# Altium integrated library Capacitor - Aluminium TH.IntLib: 4591 symbols (part 56 of 68)
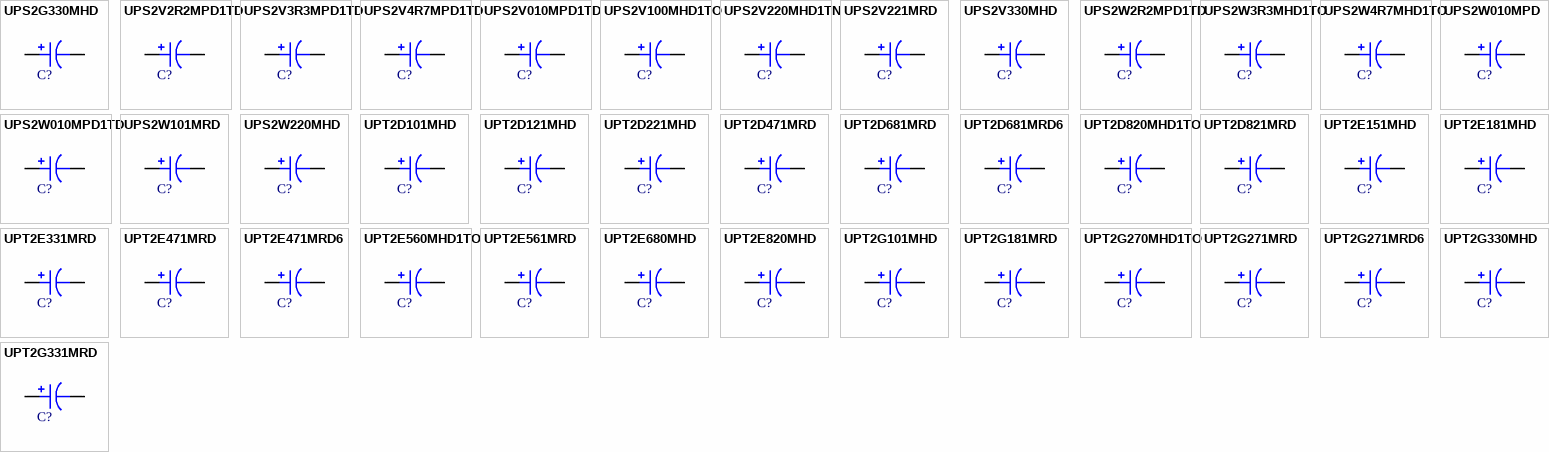
[diagram p169: symbols UPS2G330MHD to UPT2G331MRD]

## UPT2E471MRD
designator C?, comment 470uF  (value not drawn)
CAP ALUM 470UF 20% 250V RADIAL; Part Number: UPT2E471MRD; Manufacturer: Nichicon; TemperatureRange: -25C ~ 105C; Type: Polar; Ripple Current: 1.45A @ 120Hz; Value: 470uF; PartId: 27631; Supplier 1: Digi-Key; Supplier Part Number 1: 493-5693-ND; ComponentLink1Description: Datasheet; ComponentLink1URL: http://nichicon-us.com/english/products/pdfs/e-upt.pdf; ComponentLink2Description: Digi-Key Listing; ComponentLink2URL: https://www.digikey.com/product-detail/en/nichicon/UPT2E471MRD/493-5693-ND/2600200; Tolerance: 20%; Voltage: 250V; Price: 4.57; Device Package: Radial, Can, 22mm
footprint CAP AL TH D22 L10 H53
pins: 1, 2

## UPT2E471MRD6
designator C?, comment 470uF  (value not drawn)
CAP ALUM 470UF 20% 250V RADIAL; Part Number: UPT2E471MRD6; Manufacturer: Nichicon; TemperatureRange: -25C ~ 105C; Ripple Current: 1.45A; Value: 470uF; PartId: 27489; Supplier 1: Digi-Key; Supplier Part Number 1: 493-11177-ND; ComponentLink1Description: Datasheet; ComponentLink1URL: http://nichicon-us.com/english/products/pdfs/e-upt.pdf; ComponentLink2Description: Digi-Key Listing; ComponentLink2URL: https://www.digikey.com/product-detail/en/nichicon/UPT2E471MRD6/493-11177-ND/2600201; Tolerance: 20%; Voltage: 250V; Price: 4.64; Device Package: Radial, Can, 25mm
footprint CAP AL TH D25 L12.5 H42
pins: 1, 2

## UPT2E560MHD1TO
designator C?, comment 56uF  (value not drawn)
CAP ALUM 56UF 20% 250V RADIAL; Part Number: UPT2E560MHD1TO; Manufacturer: Nichicon; TemperatureRange: -25C ~ 105C; Type: Polar; Ripple Current: 310mA @ 120Hz; Value: 56uF; PartId: 24064; Supplier 1: Digi-Key; Supplier Part Number 1: 493-12219-1-ND; ComponentLink1Description: Datasheet; ComponentLink1URL: http://nichicon-us.com/english/products/pdfs/e-upt.pdf; ComponentLink2Description: Digi-Key Listing; ComponentLink2URL: https://www.digikey.com/product-detail/en/nichicon/UPT2E560MHD1TO/493-12219-1-ND/4319785; Tolerance: 20%; Voltage: 250V; Price: 1.18; Device Package: Radial, Can, 12.5mm
footprint CAP AL TH D12.5 L5 H27
pins: 1, 2

## UPT2E561MRD
designator C?, comment 560uF  (value not drawn)
CAP ALUM 560UF 20% 250V RADIAL; Part Number: UPT2E561MRD; Manufacturer: Nichicon; TemperatureRange: -25C ~ 105C; Ripple Current: 1.55A; Value: 560uF; PartId: 27545; Supplier 1: Digi-Key; Supplier Part Number 1: 493-11178-ND; ComponentLink1Description: Datasheet; ComponentLink1URL: http://nichicon-us.com/english/products/pdfs/e-upt.pdf; ComponentLink2Description: Digi-Key Listing; ComponentLink2URL: https://www.digikey.com/product-detail/en/nichicon/UPT2E561MRD/493-11178-ND/2600203; Tolerance: 20%; Voltage: 250V; Price: 5.76; Device Package: Radial, Can, 25mm
footprint CAP AL TH D25 L12.5 H52
pins: 1, 2

## UPT2E680MHD
designator C?, comment 68uF  (value not drawn)
CAP ALUM 68UF 20% 250V RADIAL; Part Number: UPT2E680MHD; Manufacturer: Nichicon; TemperatureRange: -25C ~ 105C; Type: Polar; Ripple Current: 360mA @ 120Hz; Value: 68uF; PartId: 24327; Supplier 1: Digi-Key; Supplier Part Number 1: 493-5694-ND; ComponentLink1Description: Datasheet; ComponentLink1URL: http://nichicon-us.com/english/products/pdfs/e-upt.pdf; ComponentLink2Description: Digi-Key Listing; ComponentLink2URL: https://www.digikey.com/product-detail/en/nichicon/UPT2E680MHD/493-5694-ND/2600204; Tolerance: 20%; Voltage: 250V; Price: 1.29; Device Package: Radial, Can, 12.5mm
footprint CAP AL TH D12.5 L5 H35.5
pins: 1, 2

## UPT2E820MHD
designator C?, comment 82uF  (value not drawn)
CAP ALUM 82UF 20% 250V RADIAL; Part Number: UPT2E820MHD; Manufacturer: Nichicon; TemperatureRange: -25C ~ 105C; Type: Polar; Ripple Current: 400mA @ 120Hz; Value: 82uF; PartId: 24348; Supplier 1: Digi-Key; Supplier Part Number 1: 493-5695-ND; ComponentLink1Description: Datasheet; ComponentLink1URL: http://nichicon-us.com/english/products/pdfs/e-upt.pdf; ComponentLink2Description: Digi-Key Listing; ComponentLink2URL: https://www.digikey.com/product-detail/en/nichicon/UPT2E820MHD/493-5695-ND/2600205; Tolerance: 20%; Voltage: 250V; Price: 1.39; Device Package: Radial, Can, 12.5mm
footprint CAP AL TH D12.5 L5 H35.5
pins: 1, 2

## UPT2G101MHD
designator C?, comment 100uF  (value not drawn)
CAP ALUM 100UF 20% 400V RADIAL; Part Number: UPT2G101MHD; Manufacturer: Nichicon; TemperatureRange: -25C ~ 105C; Ripple Current: 580mA; Value: 100uF; PartId: 27420; Supplier 1: Digi-Key; Supplier Part Number 1: 493-11180-ND; ComponentLink1Description: Datasheet; ComponentLink1URL: http://nichicon-us.com/english/products/pdfs/e-upt.pdf; ComponentLink2Description: Digi-Key Listing; ComponentLink2URL: https://www.digikey.com/product-detail/en/nichicon/UPT2G101MHD/493-11180-ND/2600206; Tolerance: 20%; Voltage: 400V; Price: 2.69; Device Package: Radial, Can, 16mm
footprint CAP AL TH D16 L7.5 H37
pins: 1, 2

## UPT2G181MRD
designator C?, comment 180uF  (value not drawn)
CAP ALUM 180UF 20% 400V RADIAL; Part Number: UPT2G181MRD; Manufacturer: Nichicon; TemperatureRange: -25C ~ 105C; Type: Polar; Ripple Current: 850mA @ 120Hz; Value: 180uF; PartId: 27596; Supplier 1: Digi-Key; Supplier Part Number 1: 493-5696-ND; ComponentLink1Description: Datasheet; ComponentLink1URL: http://nichicon-us.com/english/products/pdfs/e-upt.pdf; ComponentLink2Description: Digi-Key Listing; ComponentLink2URL: https://www.digikey.com/product-detail/en/nichicon/UPT2G181MRD/493-5696-ND/2600211; Tolerance: 20%; Voltage: 400V; Price: 3.89; Device Package: Radial, Can, 22mm
footprint CAP AL TH D22 L10 H43
pins: 1, 2

## UPT2G270MHD1TO
designator C?, comment 27uF  (value not drawn)
CAP ALUM 27UF 20% 400V RADIAL; Part Number: UPT2G270MHD1TO; Manufacturer: Nichicon; TemperatureRange: -25C ~ 105C; Type: Polar; Ripple Current: 240mA @ 120Hz; Value: 27uF; PartId: 23834; Supplier 1: Digi-Key; Supplier Part Number 1: 493-12220-3-ND; ComponentLink1Description: Datasheet; ComponentLink1URL: http://nichicon-us.com/english/products/pdfs/e-upt.pdf; ComponentLink2Description: Digi-Key Listing; ComponentLink2URL: https://www.digikey.com/product-detail/en/nichicon/UPT2G270MHD1TO/493-12220-3-ND/4321363; Tolerance: 20%; Voltage: 400V; Price: 0.4695; Device Package: Radial, Can, 12.5mm
footprint CAP AL TH D12.5 L5 H27
pins: 1, 2

## UPT2G271MRD
designator C?, comment 270uF  (value not drawn)
CAP ALUM 270UF 20% 400V RADIAL; Part Number: UPT2G271MRD; Manufacturer: Nichicon; TemperatureRange: -25C ~ 105C; Ripple Current: 1.3A; Value: 270uF; PartId: 27669; Supplier 1: Digi-Key; Supplier Part Number 1: 493-11186-ND; ComponentLink1Description: Datasheet; ComponentLink1URL: http://nichicon-us.com/english/products/pdfs/e-upt.pdf; ComponentLink2Description: Digi-Key Listing; ComponentLink2URL: https://www.digikey.com/product-detail/en/nichicon/UPT2G271MRD/493-11186-ND/2600214; Tolerance: 20%; Voltage: 400V; Price: 5.18; Device Package: Radial, Can, 22mm
footprint CAP AL TH D22 L10 H53
pins: 1, 2

## UPT2G271MRD6
designator C?, comment 270uF  (value not drawn)
CAP ALUM 270UF 20% 400V RADIAL; Part Number: UPT2G271MRD6; Manufacturer: Nichicon; TemperatureRange: -25C ~ 105C; Ripple Current: 1.3A; Value: 270uF; PartId: 27496; Supplier 1: Digi-Key; Supplier Part Number 1: 493-11185-ND; ComponentLink1Description: Datasheet; ComponentLink1URL: http://nichicon-us.com/english/products/pdfs/e-upt.pdf; ComponentLink2Description: Digi-Key Listing; ComponentLink2URL: https://www.digikey.com/product-detail/en/nichicon/UPT2G271MRD6/493-11185-ND/2600215; Tolerance: 20%; Voltage: 400V; Price: 5.38; Device Package: Radial, Can, 25mm
footprint CAP AL TH D25 L12.5 H42
pins: 1, 2

## UPT2G330MHD
designator C?, comment 33uF  (value not drawn)
CAP ALUM 33UF 20% 400V RADIAL; Part Number: UPT2G330MHD; Manufacturer: Nichicon; TemperatureRange: -25C ~ 105C; Type: Polar; Ripple Current: 290mA @ 120Hz; Value: 33uF; PartId: 24331; Supplier 1: Digi-Key; Supplier Part Number 1: 493-5697-ND; ComponentLink1Description: Datasheet; ComponentLink1URL: http://nichicon-us.com/english/products/pdfs/e-upt.pdf; ComponentLink2Description: Digi-Key Listing; ComponentLink2URL: https://www.digikey.com/product-detail/en/nichicon/UPT2G330MHD/493-5697-ND/2600216; Tolerance: 20%; Voltage: 400V; Price: 1.29; Device Package: Radial, Can, 12.5mm
footprint CAP AL TH D12.5 L5 H35.5
pins: 1, 2

## UPT2G331MRD
designator C?, comment 330uF  (value not drawn)
CAP ALUM 330UF 20% 400V RADIAL; Part Number: UPT2G331MRD; Manufacturer: Nichicon; TemperatureRange: -25C ~ 105C; Ripple Current: 1.4A; Value: 330uF; PartId: 27527; Supplier 1: Digi-Key; Supplier Part Number 1: 493-11187-ND; ComponentLink1Description: Datasheet; ComponentLink1URL: http://nichicon-us.com/english/products/pdfs/e-upt.pdf; ComponentLink2Description: Digi-Key Listing; ComponentLink2URL: https://www.digikey.com/product-detail/en/nichicon/UPT2G331MRD/493-11187-ND/2600217; Tolerance: 20%; Voltage: 400V; Price: 6.03; Device Package: Radial, Can, 25mm
footprint CAP AL TH D25 L12.5 H52
pins: 1, 2

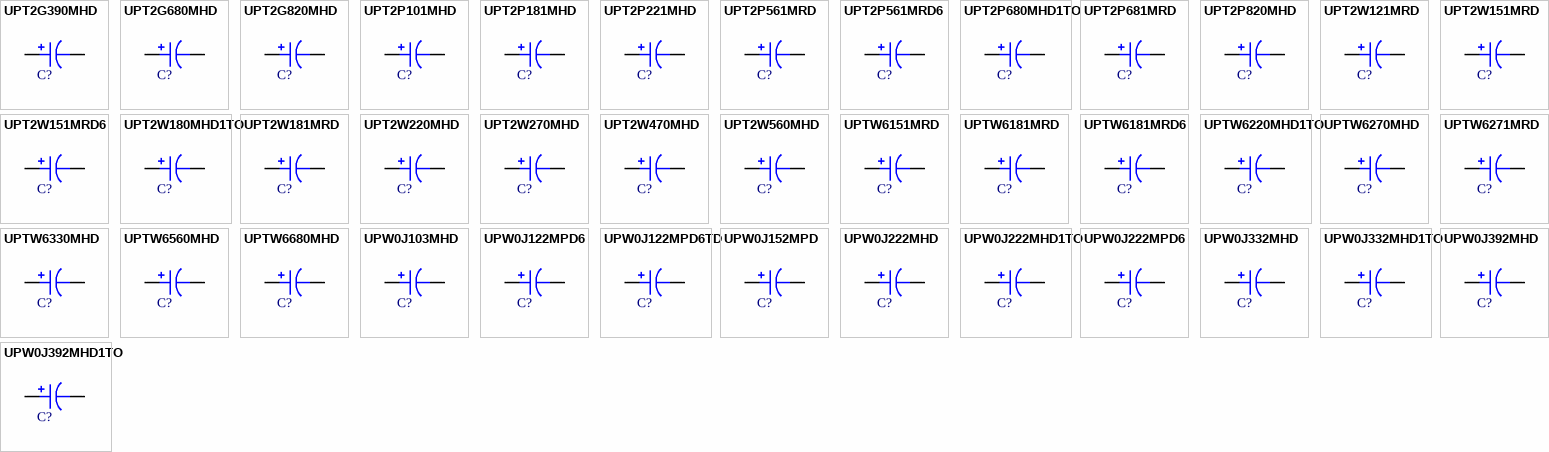
[diagram p93: symbols UPT2G390MHD to UPW0J392MHD1TO]

## UPT2G390MHD
designator C?, comment 39uF  (value not drawn)
CAP ALUM 39UF 20% 400V RADIAL; Part Number: UPT2G390MHD; Manufacturer: Nichicon; TemperatureRange: -25C ~ 105C; Ripple Current: 320mA; Value: 39uF; PartId: 24351; Supplier 1: Digi-Key; Supplier Part Number 1: 493-11188-ND; ComponentLink1Description: Datasheet; ComponentLink1URL: http://nichicon-us.com/english/products/pdfs/e-upt.pdf; ComponentLink2Description: Digi-Key Listing; ComponentLink2URL: https://www.digikey.com/product-detail/en/nichicon/UPT2G390MHD/493-11188-ND/2600218; Tolerance: 20%; Voltage: 400V; Price: 1.39; Device Package: Radial, Can, 12.5mm
footprint CAP AL TH D12.5 L5 H35.5
pins: 1, 2

## UPT2G680MHD
designator C?, comment 68uF  (value not drawn)
CAP ALUM 68UF 20% 400V RADIAL; Part Number: UPT2G680MHD; Manufacturer: Nichicon; TemperatureRange: -25C ~ 105C; Type: Polar; Ripple Current: 460mA @ 120Hz; Value: 68uF; PartId: 27196; Supplier 1: Digi-Key; Supplier Part Number 1: 493-5699-ND; ComponentLink1Description: Datasheet; ComponentLink1URL: http://nichicon-us.com/english/products/pdfs/e-upt.pdf; ComponentLink2Description: Digi-Key Listing; ComponentLink2URL: https://www.digikey.com/product-detail/en/nichicon/UPT2G680MHD/493-5699-ND/2600221; Tolerance: 20%; Voltage: 400V; Price: 2.06; Device Package: Radial, Can, 16mm
footprint CAP AL TH D16 L7.5 H33.5
pins: 1, 2

## UPT2G820MHD
designator C?, comment 82uF  (value not drawn)
CAP ALUM 82UF 20% 400V RADIAL; Part Number: UPT2G820MHD; Manufacturer: Nichicon; TemperatureRange: -25C ~ 105C; Type: Polar; Ripple Current: 500mA @ 120Hz; Value: 82uF; PartId: 27214; Supplier 1: Digi-Key; Supplier Part Number 1: 493-5700-ND; ComponentLink1Description: Datasheet; ComponentLink1URL: http://nichicon-us.com/english/products/pdfs/e-upt.pdf; ComponentLink2Description: Digi-Key Listing; ComponentLink2URL: https://www.digikey.com/product-detail/en/nichicon/UPT2G820MHD/493-5700-ND/2600222; Tolerance: 20%; Voltage: 400V; Price: 2.3; Device Package: Radial, Can, 16mm
footprint CAP AL TH D16 L7.5 H33.5
pins: 1, 2

## UPT2P101MHD
designator C?, comment 100uF  (value not drawn)
CAP ALUM 100UF 20% 220V RADIAL; Part Number: UPT2P101MHD; Manufacturer: Nichicon; TemperatureRange: -25C ~ 105C; Ripple Current: 430mA; Value: 100uF; PartId: 24349; Supplier 1: Digi-Key; Supplier Part Number 1: 493-11190-ND; ComponentLink1Description: Datasheet; ComponentLink1URL: http://nichicon-us.com/english/products/pdfs/e-upt.pdf; ComponentLink2Description: Digi-Key Listing; ComponentLink2URL: https://www.digikey.com/product-detail/en/nichicon/UPT2P101MHD/493-11190-ND/2600223; Tolerance: 20%; Voltage: 220V; Price: 1.39; Device Package: Radial, Can, 12.5mm
footprint CAP AL TH D12.5 L5 H35.5
pins: 1, 2

## UPT2P181MHD
designator C?, comment 180uF  (value not drawn)
CAP ALUM 180UF 20% 220V RADIAL; Part Number: UPT2P181MHD; Manufacturer: Nichicon; TemperatureRange: -25C ~ 105C; Type: Polar; Ripple Current: 670mA @ 120Hz; Value: 180uF; PartId: 27173; Supplier 1: Digi-Key; Supplier Part Number 1: 493-5703-ND; ComponentLink1Description: Datasheet; ComponentLink1URL: http://nichicon-us.com/english/products/pdfs/e-upt.pdf; ComponentLink2Description: Digi-Key Listing; ComponentLink2URL: https://www.digikey.com/product-detail/en/nichicon/UPT2P181MHD/493-5703-ND/2600226; Tolerance: 20%; Voltage: 220V; Price: 1.9; Device Package: Radial, Can, 16mm
footprint CAP AL TH D16 L7.5 H33.5
pins: 1, 2

## UPT2P221MHD
designator C?, comment 220uF  (value not drawn)
CAP ALUM 220UF 20% 220V RADIAL; Part Number: UPT2P221MHD; Manufacturer: Nichicon; TemperatureRange: -25C ~ 105C; Type: Polar; Ripple Current: 770mA @ 120Hz; Value: 220uF; PartId: 27417; Supplier 1: Digi-Key; Supplier Part Number 1: 493-5704-ND; ComponentLink1Description: Datasheet; ComponentLink1URL: http://nichicon-us.com/english/products/pdfs/e-upt.pdf; ComponentLink2Description: Digi-Key Listing; ComponentLink2URL: https://www.digikey.com/product-detail/en/nichicon/UPT2P221MHD/493-5704-ND/2600227; Tolerance: 20%; Voltage: 220V; Price: 2.58; Device Package: Radial, Can, 16mm
footprint CAP AL TH D16 L7.5 H37
pins: 1, 2

## UPT2P561MRD
designator C?, comment 560uF  (value not drawn)
CAP ALUM 560UF 20% 220V RADIAL; Part Number: UPT2P561MRD; Manufacturer: Nichicon; TemperatureRange: -25C ~ 105C; Type: Polar; Ripple Current: 1.5A @ 120Hz; Value: 560uF; PartId: 27659; Supplier 1: Digi-Key; Supplier Part Number 1: 493-5708-ND; ComponentLink1Description: Datasheet; ComponentLink1URL: http://nichicon-us.com/english/products/pdfs/e-upt.pdf; ComponentLink2Description: Digi-Key Listing; ComponentLink2URL: https://www.digikey.com/product-detail/en/nichicon/UPT2P561MRD/493-5708-ND/2600234; Tolerance: 20%; Voltage: 220V; Price: 4.57; Device Package: Radial, Can, 22mm
footprint CAP AL TH D22 L10 H53
pins: 1, 2

## UPT2P561MRD6
designator C?, comment 560uF  (value not drawn)
CAP ALUM 560UF 20% 220V RADIAL; Part Number: UPT2P561MRD6; Manufacturer: Nichicon; TemperatureRange: -25C ~ 105C; Ripple Current: 1.5A; Value: 560uF; PartId: 27493; Supplier 1: Digi-Key; Supplier Part Number 1: 493-11194-ND; ComponentLink1Description: Datasheet; ComponentLink1URL: http://nichicon-us.com/english/products/pdfs/e-upt.pdf; ComponentLink2Description: Digi-Key Listing; ComponentLink2URL: https://www.digikey.com/product-detail/en/nichicon/UPT2P561MRD6/493-11194-ND/2600235; Tolerance: 20%; Voltage: 220V; Price: 4.6; Device Package: Radial, Can, 25mm
footprint CAP AL TH D25 L12.5 H42
pins: 1, 2

## UPT2P680MHD1TO
designator C?, comment 68uF  (value not drawn)
CAP ALUM 68UF 20% 220V RADIAL; Part Number: UPT2P680MHD1TO; Manufacturer: Nichicon; TemperatureRange: -25C ~ 105C; Type: Polar; Ripple Current: 340mA @ 120Hz; Value: 68uF; PartId: 23634; Supplier 1: Digi-Key; Supplier Part Number 1: 493-5421-3-ND; ComponentLink1Description: Datasheet; ComponentLink1URL: http://nichicon-us.com/english/products/pdfs/e-upt.pdf; ComponentLink2Description: Digi-Key Listing; ComponentLink2URL: https://www.digikey.com/product-detail/en/nichicon/UPT2P680MHD1TO/493-5421-3-ND/3130426; Tolerance: 20%; Voltage: 220V; Price: 0.4695; Device Package: Radial, Can, 12.5mm
footprint CAP AL TH D12.5 L5 H26.5
pins: 1, 2

## UPT2P681MRD
designator C?, comment 680uF  (value not drawn)
CAP ALUM 680UF 20% 220V RADIAL; Part Number: UPT2P681MRD; Manufacturer: Nichicon; TemperatureRange: -25C ~ 105C; Ripple Current: 1.6A; Value: 680uF; PartId: 27525; Supplier 1: Digi-Key; Supplier Part Number 1: 493-11195-ND; ComponentLink1Description: Datasheet; ComponentLink1URL: http://nichicon-us.com/english/products/pdfs/e-upt.pdf; ComponentLink2Description: Digi-Key Listing; ComponentLink2URL: https://www.digikey.com/product-detail/en/nichicon/UPT2P681MRD/493-11195-ND/2600237; Tolerance: 20%; Voltage: 220V; Price: 5.76; Device Package: Radial, Can, 25mm
footprint CAP AL TH D25 L12.5 H52
pins: 1, 2

## UPT2P820MHD
designator C?, comment 82uF  (value not drawn)
CAP ALUM 82UF 20% 220V RADIAL; Part Number: UPT2P820MHD; Manufacturer: Nichicon; TemperatureRange: -25C ~ 105C; Type: Polar; Ripple Current: 400mA @ 120Hz; Value: 82uF; PartId: 24329; Supplier 1: Digi-Key; Supplier Part Number 1: 493-5709-ND; ComponentLink1Description: Datasheet; ComponentLink1URL: http://nichicon-us.com/english/products/pdfs/e-upt.pdf; ComponentLink2Description: Digi-Key Listing; ComponentLink2URL: https://www.digikey.com/product-detail/en/nichicon/UPT2P820MHD/493-5709-ND/2600238; Tolerance: 20%; Voltage: 220V; Price: 1.29; Device Package: Radial, Can, 12.5mm
footprint CAP AL TH D12.5 L5 H35.5
pins: 1, 2

## UPT2W121MRD
designator C?, comment 120uF  (value not drawn)
CAP ALUM 120UF 20% 450V RADIAL; Part Number: UPT2W121MRD; Manufacturer: Nichicon; TemperatureRange: -25C ~ 105C; Ripple Current: 770mA; Value: 120uF; PartId: 27591; Supplier 1: Digi-Key; Supplier Part Number 1: 493-11197-ND; ComponentLink1Description: Datasheet; ComponentLink1URL: http://nichicon-us.com/english/products/pdfs/e-upt.pdf; ComponentLink2Description: Digi-Key Listing; ComponentLink2URL: https://www.digikey.com/product-detail/en/nichicon/UPT2W121MRD/493-11197-ND/2600240; Tolerance: 20%; Voltage: 450V; Price: 3.76; Device Package: Radial, Can, 22mm
footprint CAP AL TH D22 L10 H43
pins: 1, 2

## UPT2W151MRD
designator C?, comment 150uF  (value not drawn)
CAP ALUM 150UF 20% 450V RADIAL; Part Number: UPT2W151MRD; Manufacturer: Nichicon; TemperatureRange: -25C ~ 105C; Ripple Current: 920mA; Value: 150uF; PartId: 27616; Supplier 1: Digi-Key; Supplier Part Number 1: 493-11200-ND; ComponentLink1Description: Datasheet; ComponentLink1URL: http://nichicon-us.com/english/products/pdfs/e-upt.pdf; ComponentLink2Description: Digi-Key Listing; ComponentLink2URL: https://www.digikey.com/product-detail/en/nichicon/UPT2W151MRD/493-11200-ND/2600242; Tolerance: 20%; Voltage: 450V; Price: 4.54; Device Package: Radial, Can, 22mm
footprint CAP AL TH D22 L10 H53
pins: 1, 2

## UPT2W151MRD6
designator C?, comment 150uF  (value not drawn)
CAP ALUM 150UF 20% 450V RADIAL; Part Number: UPT2W151MRD6; Manufacturer: Nichicon; TemperatureRange: -25C ~ 105C; Ripple Current: 920mA; Value: 150uF; PartId: 27490; Supplier 1: Digi-Key; Supplier Part Number 1: 493-11199-ND; ComponentLink1Description: Datasheet; ComponentLink1URL: http://nichicon-us.com/english/products/pdfs/e-upt.pdf; ComponentLink2Description: Digi-Key Listing; ComponentLink2URL: https://www.digikey.com/product-detail/en/nichicon/UPT2W151MRD6/493-11199-ND/2600243; Tolerance: 20%; Voltage: 450V; Price: 4.85; Device Package: Radial, Can, 25mm
footprint CAP AL TH D25 L12.5 H42
pins: 1, 2

## UPT2W180MHD1TO
designator C?, comment 18uF  (value not drawn)
CAP ALUM 18UF 20% 450V RADIAL; Part Number: UPT2W180MHD1TO; Manufacturer: Nichicon; TemperatureRange: -25C ~ 105C; Type: Polar; Ripple Current: 180mA @ 120Hz; Value: 18uF; PartId: 23635; Supplier 1: Digi-Key; Supplier Part Number 1: 493-5422-3-ND; ComponentLink1Description: Datasheet; ComponentLink1URL: http://nichicon-us.com/english/products/pdfs/e-upt.pdf; ComponentLink2Description: Digi-Key Listing; ComponentLink2URL: https://www.digikey.com/product-detail/en/nichicon/UPT2W180MHD1TO/493-5422-3-ND/3130427; Tolerance: 20%; Voltage: 450V; Price: 0.4695; Device Package: Radial, Can, 12.5mm
footprint CAP AL TH D12.5 L5 H26.5
pins: 1, 2

## UPT2W181MRD
designator C?, comment 180uF  (value not drawn)
CAP ALUM 180UF 20% 450V RADIAL; Part Number: UPT2W181MRD; Manufacturer: Nichicon; TemperatureRange: -25C ~ 105C; Ripple Current: 1.1A; Value: 180uF; PartId: 27555; Supplier 1: Digi-Key; Supplier Part Number 1: 493-11201-ND; ComponentLink1Description: Datasheet; ComponentLink1URL: http://nichicon-us.com/english/products/pdfs/e-upt.pdf; ComponentLink2Description: Digi-Key Listing; ComponentLink2URL: https://www.digikey.com/product-detail/en/nichicon/UPT2W181MRD/493-11201-ND/2600245; Tolerance: 20%; Voltage: 450V; Price: 5.76; Device Package: Radial, Can, 25mm
footprint CAP AL TH D25 L12.5 H52
pins: 1, 2

## UPT2W220MHD
designator C?, comment 22uF  (value not drawn)
CAP ALUM 22UF 20% 450V RADIAL; Part Number: UPT2W220MHD; Manufacturer: Nichicon; TemperatureRange: -25C ~ 105C; Ripple Current: 220mA; Value: 22uF; PartId: 24355; Supplier 1: Digi-Key; Supplier Part Number 1: 493-11202-ND; ComponentLink1Description: Datasheet; ComponentLink1URL: http://nichicon-us.com/english/products/pdfs/e-upt.pdf; ComponentLink2Description: Digi-Key Listing; ComponentLink2URL: https://www.digikey.com/product-detail/en/nichicon/UPT2W220MHD/493-11202-ND/2600246; Tolerance: 20%; Voltage: 450V; Price: 1.45; Device Package: Radial, Can, 12.5mm
footprint CAP AL TH D12.5 L5 H35.5
pins: 1, 2

## UPT2W270MHD
designator C?, comment 27uF  (value not drawn)
CAP ALUM 27UF 20% 450V RADIAL; Part Number: UPT2W270MHD; Manufacturer: Nichicon; TemperatureRange: -25C ~ 105C; Ripple Current: 250mA; Value: 27uF; PartId: 24346; Supplier 1: Digi-Key; Supplier Part Number 1: 493-11203-ND; ComponentLink1Description: Datasheet; ComponentLink1URL: http://nichicon-us.com/english/products/pdfs/e-upt.pdf; ComponentLink2Description: Digi-Key Listing; ComponentLink2URL: https://www.digikey.com/product-detail/en/nichicon/UPT2W270MHD/493-11203-ND/2600247; Tolerance: 20%; Voltage: 450V; Price: 1.39; Device Package: Radial, Can, 12.5mm
footprint CAP AL TH D12.5 L5 H35.5
pins: 1, 2

## UPT2W470MHD
designator C?, comment 47uF  (value not drawn)
CAP ALUM 47UF 20% 450V RADIAL; Part Number: UPT2W470MHD; Manufacturer: Nichicon; TemperatureRange: -25C ~ 105C; Ripple Current: 380mA; Value: 47uF; PartId: 27198; Supplier 1: Digi-Key; Supplier Part Number 1: 493-11206-ND; ComponentLink1Description: Datasheet; ComponentLink1URL: http://nichicon-us.com/english/products/pdfs/e-upt.pdf; ComponentLink2Description: Digi-Key Listing; ComponentLink2URL: https://www.digikey.com/product-detail/en/nichicon/UPT2W470MHD/493-11206-ND/2600250; Tolerance: 20%; Voltage: 450V; Price: 2.07; Device Package: Radial, Can, 16mm
footprint CAP AL TH D16 L7.5 H33.5
pins: 1, 2

## UPT2W560MHD
designator C?, comment 56uF  (value not drawn)
CAP ALUM 56UF 20% 450V RADIAL; Part Number: UPT2W560MHD; Manufacturer: Nichicon; TemperatureRange: -25C ~ 105C; Ripple Current: 440mA; Value: 56uF; PartId: 27409; Supplier 1: Digi-Key; Supplier Part Number 1: 493-11207-ND; ComponentLink1Description: Datasheet; ComponentLink1URL: http://nichicon-us.com/english/products/pdfs/e-upt.pdf; ComponentLink2Description: Digi-Key Listing; ComponentLink2URL: https://www.digikey.com/product-detail/en/nichicon/UPT2W560MHD/493-11207-ND/2600251; Tolerance: 20%; Voltage: 450V; Price: 2.35; Device Package: Radial, Can, 16mm
footprint CAP AL TH D16 L7.5 H37
pins: 1, 2

## UPTW6151MRD
designator C?, comment 150uF  (value not drawn)
CAP ALUM 150UF 20% 420V RADIAL; Part Number: UPTW6151MRD; Manufacturer: Nichicon; TemperatureRange: -25C ~ 105C; Type: Polar; Ripple Current: 800mA @ 120Hz; Value: 150uF; PartId: 27580; Supplier 1: Digi-Key; Supplier Part Number 1: 493-5710-ND; ComponentLink1Description: Datasheet; ComponentLink1URL: http://nichicon-us.com/english/products/pdfs/e-upt.pdf; ComponentLink2Description: Digi-Key Listing; ComponentLink2URL: https://www.digikey.com/product-detail/en/nichicon/UPTW6151MRD/493-5710-ND/2600257; Tolerance: 20%; Voltage: 420V; Price: 4.65; Device Package: Radial, Can, 22mm
footprint CAP AL TH D22 L10 H43
pins: 1, 2

## UPTW6181MRD
designator C?, comment 180uF  (value not drawn)
CAP ALUM 180UF 20% 420V RADIAL; Part Number: UPTW6181MRD; Manufacturer: Nichicon; TemperatureRange: -25C ~ 105C; Type: Polar; Ripple Current: 950mA @ 120Hz; Value: 180uF; PartId: 27632; Supplier 1: Digi-Key; Supplier Part Number 1: 493-5711-ND; ComponentLink1Description: Datasheet; ComponentLink1URL: http://nichicon-us.com/english/products/pdfs/e-upt.pdf; ComponentLink2Description: Digi-Key Listing; ComponentLink2URL: https://www.digikey.com/product-detail/en/nichicon/UPTW6181MRD/493-5711-ND/2600259; Tolerance: 20%; Voltage: 420V; Price: 5.17; Device Package: Radial, Can, 22mm
footprint CAP AL TH D22 L10 H53
pins: 1, 2

## UPTW6181MRD6
designator C?, comment 180uF  (value not drawn)
CAP ALUM 180UF 20% 420V RADIAL; Part Number: UPTW6181MRD6; Manufacturer: Nichicon; TemperatureRange: -25C ~ 105C; Type: Polar; Ripple Current: 950mA @ 120Hz; Value: 180uF; PartId: 27494; Supplier 1: Digi-Key; Supplier Part Number 1: 493-5712-ND; ComponentLink1Description: Datasheet; ComponentLink1URL: http://nichicon-us.com/english/products/pdfs/e-upt.pdf; ComponentLink2Description: Digi-Key Listing; ComponentLink2URL: https://www.digikey.com/product-detail/en/nichicon/UPTW6181MRD6/493-5712-ND/2600260; Tolerance: 20%; Voltage: 420V; Price: 5.79; Device Package: Radial, Can, 25mm
footprint CAP AL TH D25 L12.5 H42
pins: 1, 2

## UPTW6220MHD1TO
designator C?, comment 22uF  (value not drawn)
CAP ALUM 22UF 20% 420V RADIAL; Part Number: UPTW6220MHD1TO; Manufacturer: Nichicon; TemperatureRange: -25C ~ 105C; Type: Polar; Ripple Current: 200mA @ 120Hz; Value: 22uF; PartId: 23633; Supplier 1: Digi-Key; Supplier Part Number 1: 493-5423-3-ND; ComponentLink1Description: Datasheet; ComponentLink1URL: http://nichicon-us.com/english/products/pdfs/e-upt.pdf; ComponentLink2Description: Digi-Key Listing; ComponentLink2URL: https://www.digikey.com/product-detail/en/nichicon/UPTW6220MHD1TO/493-5423-3-ND/3130428; Tolerance: 20%; Voltage: 420V; Price: 0.4695; Device Package: Radial, Can, 12.5mm
footprint CAP AL TH D12.5 L5 H26.5
pins: 1, 2

## UPTW6270MHD
designator C?, comment 27uF  (value not drawn)
CAP ALUM 27UF 20% 420V RADIAL; Part Number: UPTW6270MHD; Manufacturer: Nichicon; TemperatureRange: -25C ~ 105C; Type: Polar; Ripple Current: 240mA @ 120Hz; Value: 27uF; PartId: 24328; Supplier 1: Digi-Key; Supplier Part Number 1: 493-5713-ND; ComponentLink1Description: Datasheet; ComponentLink1URL: http://nichicon-us.com/english/products/pdfs/e-upt.pdf; ComponentLink2Description: Digi-Key Listing; ComponentLink2URL: https://www.digikey.com/product-detail/en/nichicon/UPTW6270MHD/493-5713-ND/2600262; Tolerance: 20%; Voltage: 420V; Price: 1.29; Device Package: Radial, Can, 12.5mm
footprint CAP AL TH D12.5 L5 H35.5
pins: 1, 2

## UPTW6271MRD
designator C?, comment 270uF  (value not drawn)
CAP ALUM 270UF 20% 420V RADIAL; Part Number: UPTW6271MRD; Manufacturer: Nichicon; TemperatureRange: -25C ~ 105C; Type: Polar; Ripple Current: 1.2A @ 120Hz; Value: 270uF; PartId: 27511; Supplier 1: Digi-Key; Supplier Part Number 1: 493-5714-ND; ComponentLink1Description: Datasheet; ComponentLink1URL: http://nichicon-us.com/english/products/pdfs/e-upt.pdf; ComponentLink2Description: Digi-Key Listing; ComponentLink2URL: https://www.digikey.com/product-detail/en/nichicon/UPTW6271MRD/493-5714-ND/2600263; Tolerance: 20%; Voltage: 420V; Price: 5.68; Device Package: Radial, Can, 25mm
footprint CAP AL TH D25 L12.5 H52
pins: 1, 2

## UPTW6330MHD
designator C?, comment 33uF  (value not drawn)
CAP ALUM 33UF 20% 420V RADIAL; Part Number: UPTW6330MHD; Manufacturer: Nichicon; TemperatureRange: -25C ~ 105C; Type: Polar; Ripple Current: 270mA @ 120Hz; Value: 33uF; PartId: 24347; Supplier 1: Digi-Key; Supplier Part Number 1: 493-5715-ND; ComponentLink1Description: Datasheet; ComponentLink1URL: http://nichicon-us.com/english/products/pdfs/e-upt.pdf; ComponentLink2Description: Digi-Key Listing; ComponentLink2URL: https://www.digikey.com/product-detail/en/nichicon/UPTW6330MHD/493-5715-ND/2600264; Tolerance: 20%; Voltage: 420V; Price: 1.39; Device Package: Radial, Can, 12.5mm
footprint CAP AL TH D12.5 L5 H35.5
pins: 1, 2

## UPTW6560MHD
designator C?, comment 56uF  (value not drawn)
CAP ALUM 56UF 20% 420V RADIAL; Part Number: UPTW6560MHD; Manufacturer: Nichicon; TemperatureRange: -25C ~ 105C; Type: Polar; Ripple Current: 430mA @ 120Hz; Value: 56uF; PartId: 27204; Supplier 1: Digi-Key; Supplier Part Number 1: 493-5717-ND; ComponentLink1Description: Datasheet; ComponentLink1URL: http://nichicon-us.com/english/products/pdfs/e-upt.pdf; ComponentLink2Description: Digi-Key Listing; ComponentLink2URL: https://www.digikey.com/product-detail/en/nichicon/UPTW6560MHD/493-5717-ND/2600267; Tolerance: 20%; Voltage: 420V; Price: 2.11; Device Package: Radial, Can, 16mm
footprint CAP AL TH D16 L7.5 H33.5
pins: 1, 2

## UPTW6680MHD
designator C?, comment 68uF  (value not drawn)
CAP ALUM 68UF 20% 420V RADIAL; Part Number: UPTW6680MHD; Manufacturer: Nichicon; TemperatureRange: -25C ~ 105C; Type: Polar; Ripple Current: 510mA @ 120Hz; Value: 68uF; PartId: 27408; Supplier 1: Digi-Key; Supplier Part Number 1: 493-5718-ND; ComponentLink1Description: Datasheet; ComponentLink1URL: http://nichicon-us.com/english/products/pdfs/e-upt.pdf; ComponentLink2Description: Digi-Key Listing; ComponentLink2URL: https://www.digikey.com/product-detail/en/nichicon/UPTW6680MHD/493-5718-ND/2600268; Tolerance: 20%; Voltage: 420V; Price: 2.35; Device Package: Radial, Can, 16mm
footprint CAP AL TH D16 L7.5 H37
pins: 1, 2

## UPW0J103MHD
designator C?, comment 10000uF  (value not drawn)
CAP ALUM 10000UF 20% 6.3V RADIAL; Part Number: UPW0J103MHD; Manufacturer: Nichicon; TemperatureRange: -55C ~ 105C; Type: Polar; Ripple Current: 2.678A @ 120Hz; Impedance: 16 mOhm; Value: 10000uF; PartId: 27134; Supplier 1: Digi-Key; Supplier Part Number 1: 493-1723-ND; ComponentLink1Description: Datasheet; ComponentLink1URL: http://nichicon-us.com/english/products/pdfs/e-upw.pdf; ComponentLink2Description: Digi-Key Listing; ComponentLink2URL: https://www.digikey.com/product-detail/en/nichicon/UPW0J103MHD/493-1723-ND/589464; Tolerance: 20%; Voltage: 6.3V; Price: 1.79; Device Package: Radial, Can, 16mm
footprint CAP AL TH D16 L7.5 H33.5
pins: 1, 2

## UPW0J122MPD6
designator C?, comment 1200uF  (value not drawn)
CAP ALUM 1200UF 20% 6.3V RADIAL; Part Number: UPW0J122MPD6; Manufacturer: Nichicon; TemperatureRange: -55C ~ 105C; Type: Polar; Ripple Current: 893mA @ 120Hz; Impedance: 68 mOhm; Value: 1200uF; PartId: 25156; Supplier 1: Digi-Key; Supplier Part Number 1: 493-1709-ND; ComponentLink1Description: Datasheet; ComponentLink1URL: http://nichicon-us.com/english/products/pdfs/e-upw.pdf; ComponentLink2Description: Digi-Key Listing; ComponentLink2URL: https://www.digikey.com/product-detail/en/nichicon/UPW0J122MPD6/493-1709-ND/589450; Tolerance: 20%; Voltage: 6.3V; Price: 0.43; Device Package: Radial, Can, 10mm
footprint CAP AL TH D10 L5 H17.5
pins: 1, 2

## UPW0J122MPD6TD
designator C?, comment 1200uF  (value not drawn)
CAP ALUM 1200UF 20% 6.3V RADIAL; Part Number: UPW0J122MPD6TD; Manufacturer: Nichicon; TemperatureRange: -55C ~ 105C; Type: Polar; Ripple Current: 893mA @ 120Hz; Impedance: 68 mOhm; Value: 1200uF; PartId: 25001; Supplier 1: Digi-Key; Supplier Part Number 1: 493-11799-3-ND; ComponentLink1Description: Datasheet; ComponentLink1URL: http://nichicon-us.com/english/products/pdfs/e-upw.pdf; ComponentLink2Description: Digi-Key Listing; ComponentLink2URL: https://www.digikey.com/product-detail/en/nichicon/UPW0J122MPD6TD/493-11799-3-ND/4320942; Tolerance: 20%; Voltage: 6.3V; Price: 0.149; Device Package: Radial, Can, 10mm
footprint CAP AL TH D10 L5 H17.5
pins: 1, 2

## UPW0J152MPD
designator C?, comment 1500uF  (value not drawn)
CAP ALUM 1500UF 20% 6.3V RADIAL; Part Number: UPW0J152MPD; Manufacturer: Nichicon; TemperatureRange: -55C ~ 105C; Type: Polar; Ripple Current: 1.037A @ 120Hz; Impedance: 52 mOhm; Value: 1500uF; PartId: 25531; Supplier 1: Digi-Key; Supplier Part Number 1: 493-1710-ND; ComponentLink1Description: Datasheet; ComponentLink1URL: http://nichicon-us.com/english/products/pdfs/e-upw.pdf; ComponentLink2Description: Digi-Key Listing; ComponentLink2URL: https://www.digikey.com/product-detail/en/nichicon/UPW0J152MPD/493-1710-ND/589451; Tolerance: 20%; Voltage: 6.3V; Price: 0.61; Device Package: Radial, Can, 10mm
footprint CAP AL TH D10 L5 H22
pins: 1, 2

## UPW0J222MHD
designator C?, comment 2200uF  (value not drawn)
CAP ALUM 2200UF 20% 6.3V RADIAL; Part Number: UPW0J222MHD; Manufacturer: Nichicon; TemperatureRange: -55C ~ 105C; Type: Polar; Ripple Current: 1.407A @ 120Hz; Impedance: 38 mOhm; Value: 2200uF; PartId: 22880; Supplier 1: Digi-Key; Supplier Part Number 1: 493-1711-ND; ComponentLink1Description: Datasheet; ComponentLink1URL: http://nichicon-us.com/english/products/pdfs/e-upw.pdf; ComponentLink2Description: Digi-Key Listing; ComponentLink2URL: https://www.digikey.com/product-detail/en/nichicon/UPW0J222MHD/493-1711-ND/589452; Tolerance: 20%; Voltage: 6.3V; Price: 0; Device Package: Radial, Can, 12.5mm
footprint CAP AL TH D12.5 L5 H20
pins: 1, 2

## UPW0J222MHD1TO
designator C?, comment 2200uF  (value not drawn)
CAP ALUM 2200UF 20% 6.3V RADIAL; Part Number: UPW0J222MHD1TO; Manufacturer: Nichicon; TemperatureRange: -55C ~ 105C; Type: Polar; Ripple Current: 1.407A @ 120Hz; Impedance: 38 mOhm; Value: 2200uF; PartId: 23309; Supplier 1: Digi-Key; Supplier Part Number 1: 493-12055-1-ND; ComponentLink1Description: Datasheet; ComponentLink1URL: http://nichicon-us.com/english/products/pdfs/e-upw.pdf; ComponentLink2Description: Digi-Key Listing; ComponentLink2URL: https://www.digikey.com/product-detail/en/nichicon/UPW0J222MHD1TO/493-12055-1-ND/4319861; Tolerance: 20%; Voltage: 6.3V; Price: 0.81; Device Package: Radial, Can, 12.5mm
footprint CAP AL TH D12.5 L5 H22
pins: 1, 2

## UPW0J222MPD6
designator C?, comment 2200uF  (value not drawn)
CAP ALUM 2200UF 20% 6.3V RADIAL; Part Number: UPW0J222MPD6; Manufacturer: Nichicon; TemperatureRange: -55C ~ 105C; Type: Polar; Ripple Current: 1.224A @ 120Hz; Impedance: 45 mOhm; Value: 2200uF; PartId: 26152; Supplier 1: Digi-Key; Supplier Part Number 1: 493-1712-ND; ComponentLink1Description: Datasheet; ComponentLink1URL: http://nichicon-us.com/english/products/pdfs/e-upw.pdf; ComponentLink2Description: Digi-Key Listing; ComponentLink2URL: https://www.digikey.com/product-detail/en/nichicon/UPW0J222MPD6/493-1712-ND/589453; Tolerance: 20%; Voltage: 6.3V; Price: 0.85; Device Package: Radial, Can, 10mm
footprint CAP AL TH D10 L5 H30
pins: 1, 2

## UPW0J332MHD
designator C?, comment 3300uF  (value not drawn)
CAP ALUM 3300UF 20% 6.3V RADIAL; Part Number: UPW0J332MHD; Manufacturer: Nichicon; TemperatureRange: -55C ~ 105C; Type: Polar; Ripple Current: 1.407A @ 120Hz; Impedance: 38 mOhm; Value: 3300uF; PartId: 22883; Supplier 1: Digi-Key; Supplier Part Number 1: 493-1714-ND; ComponentLink1Description: Datasheet; ComponentLink1URL: http://nichicon-us.com/english/products/pdfs/e-upw.pdf; ComponentLink2Description: Digi-Key Listing; ComponentLink2URL: https://www.digikey.com/product-detail/en/nichicon/UPW0J332MHD/493-1714-ND/589455; Tolerance: 20%; Voltage: 6.3V; Price: 0; Device Package: Radial, Can, 12.5mm
footprint CAP AL TH D12.5 L5 H20
pins: 1, 2

## UPW0J332MHD1TO
designator C?, comment 3300uF  (value not drawn)
CAP ALUM 3300UF 20% 6.3V RADIAL; Part Number: UPW0J332MHD1TO; Manufacturer: Nichicon; TemperatureRange: -55C ~ 105C; Type: Polar; Ripple Current: 1.407A @ 120Hz; Impedance: 38 mOhm; Value: 3300uF; PartId: 23325; Supplier 1: Digi-Key; Supplier Part Number 1: 493-12058-1-ND; ComponentLink1Description: Datasheet; ComponentLink1URL: http://nichicon-us.com/english/products/pdfs/e-upw.pdf; ComponentLink2Description: Digi-Key Listing; ComponentLink2URL: https://www.digikey.com/product-detail/en/nichicon/UPW0J332MHD1TO/493-12058-1-ND/4319867; Tolerance: 20%; Voltage: 6.3V; Price: 0.82; Device Package: Radial, Can, 12.5mm
footprint CAP AL TH D12.5 L5 H22
pins: 1, 2

## UPW0J392MHD
designator C?, comment 3900uF  (value not drawn)
CAP ALUM 3900UF 20% 6.3V RADIAL; Part Number: UPW0J392MHD; Manufacturer: Nichicon; TemperatureRange: -55C ~ 105C; Type: Polar; Ripple Current: 1.653A @ 120Hz; Impedance: 30 mOhm; Value: 3900uF; PartId: 23615; Supplier 1: Digi-Key; Supplier Part Number 1: 493-1715-ND; ComponentLink1Description: Datasheet; ComponentLink1URL: http://nichicon-us.com/english/products/pdfs/e-upw.pdf; ComponentLink2Description: Digi-Key Listing; ComponentLink2URL: https://www.digikey.com/product-detail/en/nichicon/UPW0J392MHD/493-1715-ND/589456; Tolerance: 20%; Voltage: 6.3V; Price: 1.27; Device Package: Radial, Can, 12.5mm
footprint CAP AL TH D12.5 L5 H25
pins: 1, 2

## UPW0J392MHD1TO
designator C?, comment 3900uF  (value not drawn)
CAP ALUM 3900UF 20% 6.3V RADIAL; Part Number: UPW0J392MHD1TO; Manufacturer: Nichicon; TemperatureRange: -55C ~ 105C; Type: Polar; Ripple Current: 1.653A @ 120Hz; Impedance: 30 mOhm; Value: 3900uF; PartId: 24053; Supplier 1: Digi-Key; Supplier Part Number 1: 493-12206-1-ND; ComponentLink1Description: Datasheet; ComponentLink1URL: http://nichicon-us.com/english/products/pdfs/e-upw.pdf; ComponentLink2Description: Digi-Key Listing; ComponentLink2URL: https://www.digikey.com/product-detail/en/nichicon/UPW0J392MHD1TO/493-12206-1-ND/4319868; Tolerance: 20%; Voltage: 6.3V; Price: 1.15; Device Package: Radial, Can, 12.5mm
footprint CAP AL TH D12.5 L5 H27
pins: 1, 2

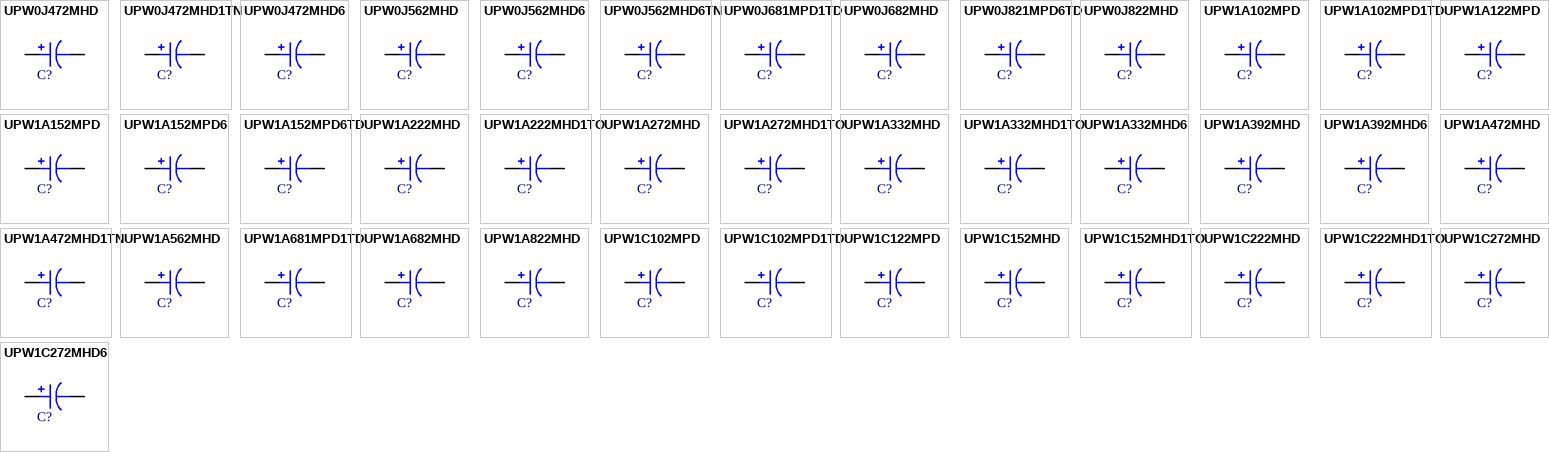
[diagram p94: symbols UPW0J472MHD to UPW1C272MHD6]

## UPW0J472MHD
designator C?, comment 4700uF  (value not drawn)
CAP ALUM 4700UF 20% 6.3V RADIAL; Part Number: UPW0J472MHD; Manufacturer: Nichicon; TemperatureRange: -55C ~ 105C; Type: Polar; Ripple Current: 2.172A @ 120Hz; Impedance: 22 mOhm; Value: 4700uF; PartId: 26548; Supplier 1: Digi-Key; Supplier Part Number 1: 493-1716-ND; ComponentLink1Description: Datasheet; ComponentLink1URL: http://nichicon-us.com/english/products/pdfs/e-upw.pdf; ComponentLink2Description: Digi-Key Listing; ComponentLink2URL: https://www.digikey.com/product-detail/en/nichicon/UPW0J472MHD/493-1716-ND/589457; Tolerance: 20%; Voltage: 6.3V; Price: 1.04; Device Package: Radial, Can, 16mm
footprint CAP AL TH D16 L7.5 H26.5
pins: 1, 2

## UPW0J472MHD1TN
designator C?, comment 4700uF  (value not drawn)
CAP ALUM 4700UF 20% 6.3V RADIAL; Part Number: UPW0J472MHD1TN; Manufacturer: Nichicon; TemperatureRange: -55C ~ 105C; Type: Polar; Ripple Current: 2.172A @ 120Hz; Impedance: 22 mOhm; Value: 4700uF; PartId: 26746; Supplier 1: Digi-Key; Supplier Part Number 1: 493-12169-3-ND; ComponentLink1Description: Datasheet; ComponentLink1URL: http://nichicon-us.com/english/products/pdfs/e-upw.pdf; ComponentLink2Description: Digi-Key Listing; ComponentLink2URL: https://www.digikey.com/product-detail/en/nichicon/UPW0J472MHD1TN/493-12169-3-ND/4321312; Tolerance: 20%; Voltage: 6.3V; Price: 0.5113; Device Package: Radial, Can, 16mm
footprint CAP AL TH D16 L7.5 H27
pins: 1, 2

## UPW0J472MHD6
designator C?, comment 4700uF  (value not drawn)
CAP ALUM 4700UF 20% 6.3V RADIAL; Part Number: UPW0J472MHD6; Manufacturer: Nichicon; TemperatureRange: -55C ~ 105C; Type: Polar; Ripple Current: 1.964A @ 120Hz; Impedance: 25 mOhm; Value: 4700uF; PartId: 24211; Supplier 1: Digi-Key; Supplier Part Number 1: 493-1717-ND; ComponentLink1Description: Datasheet; ComponentLink1URL: http://nichicon-us.com/english/products/pdfs/e-upw.pdf; ComponentLink2Description: Digi-Key Listing; ComponentLink2URL: https://www.digikey.com/product-detail/en/nichicon/UPW0J472MHD6/493-1717-ND/589458; Tolerance: 20%; Voltage: 6.3V; Price: 0.95; Device Package: Radial, Can, 12.5mm
footprint CAP AL TH D12.5 L5 H35.5
pins: 1, 2

## UPW0J562MHD
designator C?, comment 5600uF  (value not drawn)
CAP ALUM 5600UF 20% 6.3V RADIAL; Part Number: UPW0J562MHD; Manufacturer: Nichicon; TemperatureRange: -55C ~ 105C; Type: Polar; Ripple Current: 1.879A @ 120Hz; Impedance: 22 mOhm; Value: 5600uF; PartId: 24334; Supplier 1: Digi-Key; Supplier Part Number 1: 493-1718-ND; ComponentLink1Description: Datasheet; ComponentLink1URL: http://nichicon-us.com/english/products/pdfs/e-upw.pdf; ComponentLink2Description: Digi-Key Listing; ComponentLink2URL: https://www.digikey.com/product-detail/en/nichicon/UPW0J562MHD/493-1718-ND/589459; Tolerance: 20%; Voltage: 6.3V; Price: 1.3; Device Package: Radial, Can, 12.5mm
footprint CAP AL TH D12.5 L5 H35.5
pins: 1, 2

## UPW0J562MHD6
designator C?, comment 5600uF  (value not drawn)
CAP ALUM 5600UF 20% 6.3V RADIAL; Part Number: UPW0J562MHD6; Manufacturer: Nichicon; TemperatureRange: -55C ~ 105C; Type: Polar; Ripple Current: 1.879A @ 120Hz; Impedance: 29 mOhm; Value: 5600uF; PartId: 26319; Supplier 1: Digi-Key; Supplier Part Number 1: 493-1719-ND; ComponentLink1Description: Datasheet; ComponentLink1URL: http://nichicon-us.com/english/products/pdfs/e-upw.pdf; ComponentLink2Description: Digi-Key Listing; ComponentLink2URL: https://www.digikey.com/product-detail/en/nichicon/UPW0J562MHD6/493-1719-ND/589460; Tolerance: 20%; Voltage: 6.3V; Price: 1.26; Device Package: Radial, Can, 16mm
footprint CAP AL TH D16 L7.5 H20
pins: 1, 2

## UPW0J562MHD6TN
designator C?, comment 5600uF  (value not drawn)
CAP ALUM 5600UF 20% 6.3V RADIAL; Part Number: UPW0J562MHD6TN; Manufacturer: Nichicon; TemperatureRange: -55C ~ 105C; Type: Polar; Ripple Current: 1.879A @ 120Hz; Impedance: 29 mOhm; Value: 5600uF; PartId: 26376; Supplier 1: Digi-Key; Supplier Part Number 1: 493-12284-3-ND; ComponentLink1Description: Datasheet; ComponentLink1URL: http://nichicon-us.com/english/products/pdfs/e-upw.pdf; ComponentLink2Description: Digi-Key Listing; ComponentLink2URL: https://www.digikey.com/product-detail/en/nichicon/UPW0J562MHD6TN/493-12284-3-ND/4321427; Tolerance: 20%; Voltage: 6.3V; Price: 0.6634; Device Package: Radial, Can, 16mm
footprint CAP AL TH D16 L7.5 H22
pins: 1, 2

## UPW0J681MPD1TD
designator C?, comment 680uF  (value not drawn)
CAP ALUM 680UF 20% 6.3V RADIAL; Part Number: UPW0J681MPD1TD; Manufacturer: Nichicon; TemperatureRange: -55C ~ 105C; Type: Polar; Ripple Current: 566.3mA @ 120Hz; Impedance: 90 mOhm; Value: 680uF; PartId: 24511; Supplier 1: Digi-Key; Supplier Part Number 1: 493-11670-3-ND; ComponentLink1Description: Datasheet; ComponentLink1URL: http://nichicon-us.com/english/products/pdfs/e-upw.pdf; ComponentLink2Description: Digi-Key Listing; ComponentLink2URL: https://www.digikey.com/product-detail/en/nichicon/UPW0J681MPD1TD/493-11670-3-ND/4320813; Tolerance: 20%; Voltage: 6.3V; Price: 0.1266; Device Package: Radial, Can, 10mm
footprint CAP AL TH D10 L5 H14.5
pins: 1, 2

## UPW0J682MHD
designator C?, comment 6800uF  (value not drawn)
CAP ALUM 6800UF 20% 6.3V RADIAL; Part Number: UPW0J682MHD; Manufacturer: Nichicon; TemperatureRange: -55C ~ 105C; Type: Polar; Ripple Current: 2.176A @ 120Hz; Impedance: 22 mOhm; Value: 6800uF; PartId: 26610; Supplier 1: Digi-Key; Supplier Part Number 1: 493-1720-ND; ComponentLink1Description: Datasheet; ComponentLink1URL: http://nichicon-us.com/english/products/pdfs/e-upw.pdf; ComponentLink2Description: Digi-Key Listing; ComponentLink2URL: https://www.digikey.com/product-detail/en/nichicon/UPW0J682MHD/493-1720-ND/589461; Tolerance: 20%; Voltage: 6.3V; Price: 1.37; Device Package: Radial, Can, 16mm
footprint CAP AL TH D16 L7.5 H26.5
pins: 1, 2

## UPW0J821MPD6TD
designator C?, comment 820uF  (value not drawn)
CAP ALUM 820UF 20% 6.3V RADIAL; Part Number: UPW0J821MPD6TD; Manufacturer: Nichicon; TemperatureRange: -55C ~ 105C; Type: Polar; Ripple Current: 566.25mA @ 120Hz; Impedance: 90 mOhm; Value: 820uF; PartId: 24568; Supplier 1: Digi-Key; Supplier Part Number 1: 493-11812-3-ND; ComponentLink1Description: Datasheet; ComponentLink1URL: http://nichicon-us.com/english/products/pdfs/e-upw.pdf; ComponentLink2Description: Digi-Key Listing; ComponentLink2URL: https://www.digikey.com/product-detail/en/nichicon/UPW0J821MPD6TD/493-11812-3-ND/4320955; Tolerance: 20%; Voltage: 6.3V; Price: 0.155; Device Package: Radial, Can, 10mm
footprint CAP AL TH D10 L5 H14.5
pins: 1, 2

## UPW0J822MHD
designator C?, comment 8200uF  (value not drawn)
CAP ALUM 8200UF 20% 6.3V RADIAL; Part Number: UPW0J822MHD; Manufacturer: Nichicon; TemperatureRange: -55C ~ 105C; Type: Polar; Ripple Current: 2.559A @ 120Hz; Impedance: 18 mOhm; Value: 8200uF; PartId: 27078; Supplier 1: Digi-Key; Supplier Part Number 1: 493-1722-ND; ComponentLink1Description: Datasheet; ComponentLink1URL: http://nichicon-us.com/english/products/pdfs/e-upw.pdf; ComponentLink2Description: Digi-Key Listing; ComponentLink2URL: https://www.digikey.com/product-detail/en/nichicon/UPW0J822MHD/493-1722-ND/589463; Tolerance: 20%; Voltage: 6.3V; Price: 1.67; Device Package: Radial, Can, 16mm
footprint CAP AL TH D16 L7.5 H33.5
pins: 1, 2

## UPW1A102MPD
designator C?, comment 1000uF  (value not drawn)
CAP ALUM 1000UF 20% 10V RADIAL; Part Number: UPW1A102MPD; Manufacturer: Nichicon; TemperatureRange: -55C ~ 105C; Type: Polar; Ripple Current: 788mA @ 120Hz; Impedance: 68 mOhm; Value: 1000uF; PartId: 25192; Supplier 1: Digi-Key; Supplier Part Number 1: 493-1746-ND; ComponentLink1Description: Datasheet; ComponentLink1URL: http://nichicon-us.com/english/products/pdfs/e-upw.pdf; ComponentLink2Description: Digi-Key Listing; ComponentLink2URL: https://www.digikey.com/product-detail/en/nichicon/UPW1A102MPD/493-1746-ND/589487; Tolerance: 20%; Voltage: 10V; Price: 0.49; Device Package: Radial, Can, 10mm
footprint CAP AL TH D10 L5 H17.5
pins: 1, 2

## UPW1A102MPD1TD
designator C?, comment 1000uF  (value not drawn)
CAP ALUM 1000UF 20% 10V RADIAL; Part Number: UPW1A102MPD1TD; Manufacturer: Nichicon; TemperatureRange: -55C ~ 105C; Type: Polar; Ripple Current: 788mA @ 120Hz; Impedance: 68 mOhm; Value: 1000uF; PartId: 25025; Supplier 1: Digi-Key; Supplier Part Number 1: 493-11855-3-ND; ComponentLink1Description: Datasheet; ComponentLink1URL: http://nichicon-us.com/english/products/pdfs/e-upw.pdf; ComponentLink2Description: Digi-Key Listing; ComponentLink2URL: https://www.digikey.com/product-detail/en/nichicon/UPW1A102MPD1TD/493-11855-3-ND/4320998; Tolerance: 20%; Voltage: 10V; Price: 0.1704; Device Package: Radial, Can, 10mm
footprint CAP AL TH D10 L5 H17.5
pins: 1, 2

## UPW1A122MPD
designator C?, comment 1200uF  (value not drawn)
CAP ALUM 1200UF 20% 10V RADIAL; Part Number: UPW1A122MPD; Manufacturer: Nichicon; TemperatureRange: -55C ~ 105C; Type: Polar; Ripple Current: 1.037A @ 120Hz; Impedance: 52 mOhm; Value: 1200uF; PartId: 25533; Supplier 1: Digi-Key; Supplier Part Number 1: 493-1748-ND; ComponentLink1Description: Datasheet; ComponentLink1URL: http://nichicon-us.com/english/products/pdfs/e-upw.pdf; ComponentLink2Description: Digi-Key Listing; ComponentLink2URL: https://www.digikey.com/product-detail/en/nichicon/UPW1A122MPD/493-1748-ND/589489; Tolerance: 20%; Voltage: 10V; Price: 0.61; Device Package: Radial, Can, 10mm
footprint CAP AL TH D10 L5 H22
pins: 1, 2

## UPW1A152MPD
designator C?, comment 1500uF  (value not drawn)
CAP ALUM 1500UF 20% 10V RADIAL; Part Number: UPW1A152MPD; Manufacturer: Nichicon; TemperatureRange: -55C ~ 105C; Type: Polar; Ripple Current: 1.037A @ 120Hz; Impedance: 52 mOhm; Value: 1500uF; PartId: 25560; Supplier 1: Digi-Key; Supplier Part Number 1: 493-1749-ND; ComponentLink1Description: Datasheet; ComponentLink1URL: http://nichicon-us.com/english/products/pdfs/e-upw.pdf; ComponentLink2Description: Digi-Key Listing; ComponentLink2URL: https://www.digikey.com/product-detail/en/nichicon/UPW1A152MPD/493-1749-ND/589490; Tolerance: 20%; Voltage: 10V; Price: 0.65; Device Package: Radial, Can, 10mm
footprint CAP AL TH D10 L5 H22
pins: 1, 2

## UPW1A152MPD6
designator C?, comment 1500uF  (value not drawn)
CAP ALUM 1500UF 20% 10V RADIAL; Part Number: UPW1A152MPD6; Manufacturer: Nichicon; TemperatureRange: -55C ~ 105C; Type: Polar; Ripple Current: 1.224A @ 120Hz; Impedance: 45 mOhm; Value: 1500uF; PartId: 26096; Supplier 1: Digi-Key; Supplier Part Number 1: 493-1750-ND; ComponentLink1Description: Datasheet; ComponentLink1URL: http://nichicon-us.com/english/products/pdfs/e-upw.pdf; ComponentLink2Description: Digi-Key Listing; ComponentLink2URL: https://www.digikey.com/product-detail/en/nichicon/UPW1A152MPD6/493-1750-ND/589491; Tolerance: 20%; Voltage: 10V; Price: 0.74; Device Package: Radial, Can, 10mm
footprint CAP AL TH D10 L5 H30
pins: 1, 2

## UPW1A152MPD6TD
designator C?, comment 1500uF  (value not drawn)
CAP ALUM 1500UF 20% 10V RADIAL; Part Number: UPW1A152MPD6TD; Manufacturer: Nichicon; TemperatureRange: -55C ~ 105C; Type: Polar; Ripple Current: 1.224A @ 120Hz; Impedance: 45 mOhm; Value: 1500uF; PartId: 26010; Supplier 1: Digi-Key; Supplier Part Number 1: 493-12025-3-ND; ComponentLink1Description: Datasheet; ComponentLink1URL: http://nichicon-us.com/english/products/pdfs/e-upw.pdf; ComponentLink2Description: Digi-Key Listing; ComponentLink2URL: https://www.digikey.com/product-detail/en/nichicon/UPW1A152MPD6TD/493-12025-3-ND/4321168; Tolerance: 20%; Voltage: 10V; Price: 0.2941; Device Package: Radial, Can, 10mm
footprint CAP AL TH D10 L5 H30
pins: 1, 2

## UPW1A222MHD
designator C?, comment 2200uF  (value not drawn)
CAP ALUM 2200UF 20% 10V RADIAL; Part Number: UPW1A222MHD; Manufacturer: Nichicon; TemperatureRange: -55C ~ 105C; Type: Polar; Ripple Current: 1.407A @ 120Hz; Impedance: 38 mOhm; Value: 2200uF; PartId: 22871; Supplier 1: Digi-Key; Supplier Part Number 1: 493-1751-ND; ComponentLink1Description: Datasheet; ComponentLink1URL: http://nichicon-us.com/english/products/pdfs/e-upw.pdf; ComponentLink2Description: Digi-Key Listing; ComponentLink2URL: https://www.digikey.com/product-detail/en/nichicon/UPW1A222MHD/493-1751-ND/589492; Tolerance: 20%; Voltage: 10V; Price: 0; Device Package: Radial, Can, 12.5mm
footprint CAP AL TH D12.5 L5 H20
pins: 1, 2

## UPW1A222MHD1TO
designator C?, comment 2200uF  (value not drawn)
CAP ALUM 2200UF 20% 10V RADIAL; Part Number: UPW1A222MHD1TO; Manufacturer: Nichicon; TemperatureRange: -55C ~ 105C; Type: Polar; Ripple Current: 1.407A @ 120Hz; Impedance: 38 mOhm; Value: 2200uF; PartId: 23150; Supplier 1: Digi-Key; Supplier Part Number 1: 493-12022-3-ND; ComponentLink1Description: Datasheet; ComponentLink1URL: http://nichicon-us.com/english/products/pdfs/e-upw.pdf; ComponentLink2Description: Digi-Key Listing; ComponentLink2URL: https://www.digikey.com/product-detail/en/nichicon/UPW1A222MHD1TO/493-12022-3-ND/4321165; Tolerance: 20%; Voltage: 10V; Price: 0.295; Device Package: Radial, Can, 12.5mm
footprint CAP AL TH D12.5 L5 H22
pins: 1, 2